# Altium integrated library sustentationAvecPC.IntLib: 13 symbols
Pins are listed as number, name and electrical type; pins without a type are passive.

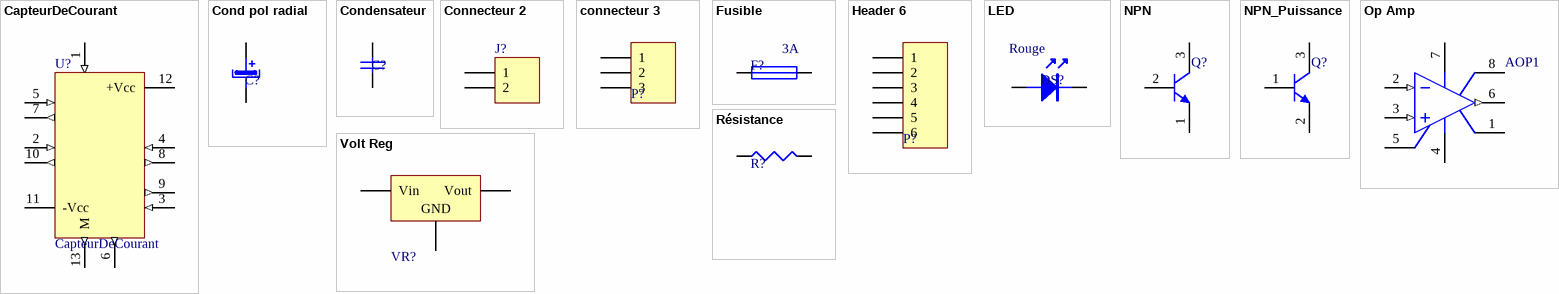
[diagram p0: symbols CapteurDeCourant to Volt Reg]

## CapteurDeCourant
designator U?
Published: 8-Jun-2000; LatestRevisionDate: 17-Jul-2002; LatestRevisionNote: Re-released for DXP Platform.; DatasheetDocument: Jul-1996; PackageDocument: Jan-1998; PackageReference: D016; Publisher: Altium Limited
footprint Sonde_Courant (Adjustable Magnetic-Core Inductor; 2 Leads)
pins: 1 (in), 2 (in), 3 (in), 4 (in), 5 (in), 6 (out), 7 (out), 8 (out), 9 (out), 10 (out), 11 -Vcc (power), 12 +Vcc (power), 13 M (out)

## Cond pol radial
designator C?
Condensateur polatisé; Type: Condensateur polarisé debout; Designer: ECAM 2004
footprint CAPPR_100u
footprint AXIAL-1.0 (Adjustable Magnetic-Core Inductor; 2 Leads)
pins: 1 +, 2 -
2 alternate drawings of the same symbol

## Condensateur
designator C?
Condensateur; Supplier: Farnell; Designer: ECAM 2004
footprint Capa_100n (Connector; Header; 2 Position)
pins: 1, 2

## Connecteur 2
designator J?
Connecteur; Designer: ECAM 2005; Type: Connecteur à vis
footprint connecteur PC Sorties command (Connector; Header; 2x1 Position)
footprint connecteur 3A (Connector; Header; 2 Position)
pins: 1, 2

## connecteur 3
designator P?
Header, 3-Pin; LatestRevisionDate: 17-Jul-2002; LatestRevisionNote: Re-released for DXP Platform.; Publisher: Altium Limited
footprint CONVIS-3
signal-integrity model Connector
footprint connecteur capteur Hall (Connector; Header; 3x1 Position)
pins: 1, 2, 3

## Fusible
designator F?  value 3A
Fusible; Designer: ECAM 2004; Type: Fusible
footprint FUSE-10
pins: 1 F1, 2 F2

## Header 6
designator P?
Header, 6-Pin; LatestRevisionDate: 17-Jul-2002; LatestRevisionNote: Re-released for DXP Platform.; Publisher: Altium Limited
footprint connecteur PC Entrées (Connector; Header; 6x2 Position)
signal-integrity model Connector
pins: 1, 2, 3, 4, 5, 6

## LED
designator DS?  Color: Rouge
LED; Designer: ECAM 2004; Type: LED
footprint Led 0.1
pins: 1 A, 2 K

## NPN
designator Q?
NPN Bipolar Transistor; Published: 8-Jun-2000; LatestRevisionDate: 17-Jul-2002; LatestRevisionNote: Re-released for DXP Platform.; Publisher: Altium Limited; Code_JEDEC: TO-226-AA
footprint TO-5
pins: 1 E, 2 B, 3 C

## NPN_Puissance
designator Q?
NPN Bipolar Transistor; Published: 8-Jun-2000; LatestRevisionDate: 17-Jul-2002; LatestRevisionNote: Re-released for DXP Platform.; Publisher: Altium Limited; Code_JEDEC: TO-226-AA
footprint TO-3
pins: 1 B, 2 E, 3 C

## Op Amp
designator AOP1
FET Operational Amplifier; Published: 8-Jun-2000; LatestRevisionDate: 17-Jul-2002; LatestRevisionNote: Re-released for DXP Platform.; DatasheetDocument: REV. B; PackageReference: H-08A; Publisher: Altium Limited
footprint DIP8
pins: 1 OS NUL, 2 IN- (in), 3 IN+ (in), 4 V- (power), 5 OS NUL, 6 OUT (out), 7 V+ (power), 8 TAB

## Résistance
designator R?
Résistance standard; Designer: ECAM 2005; Type: Résistance standard
footprint AXIAL-0.4
pins: 1, 2
3 alternate drawings of the same symbol

## Volt Reg
designator VR?
Voltage Regulator; Published: 24-Mar-1999; LatestRevisionDate: 17-Jul-2002; LatestRevisionNote: Re-released for DXP Platform.; Publisher: Altium Limited; Code_JEDEC: SMD-220
footprint TO-220 regulateur (TO, Thru-Hole, Vertical, Heatsink Mounted; 3 In-Line Leads; Pitch 2.54 mm)
pins: 1 Vin, 2 GND, 3 Vout